# Altium footprint library AON6512.PcbLib: 1 footprints
Each footprint in its own frame and in the unit in brackets; x right, y up, seen from the top. Pads: shape width x height; smd on the part's side, far side on the other; paste and mask are expansions set on the pad; w line width, h text height; cw(c..) or ccw(c..) is an arc to the next point about the centre after c.
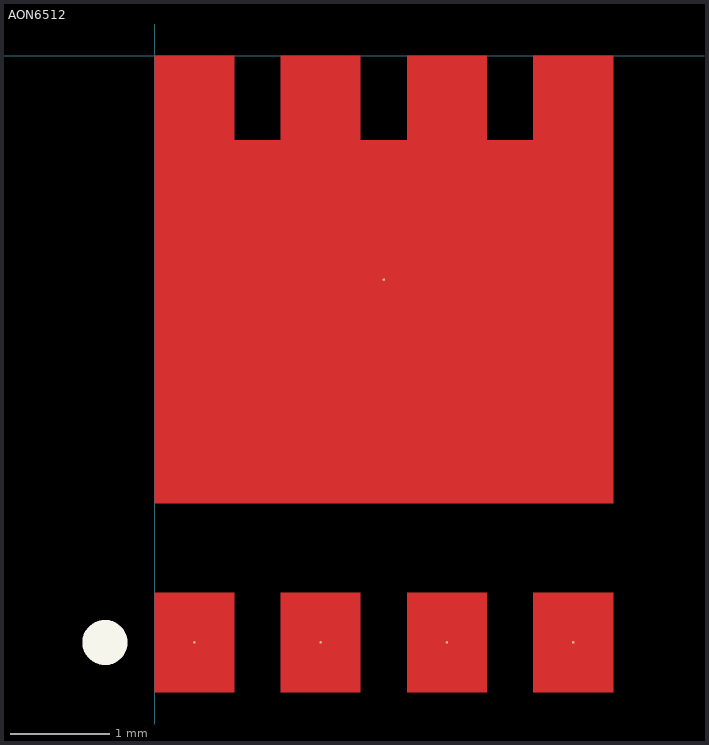
[diagram p0: the footprint, top view; thin cyan lines are the x and y axes]

## AON6512 [mil]
pads (5):
  round 1 smd: 1(15.75,-232.28) 2(65.75,-232.28) 3(115.75,-232.28) 4(165.75,-232.28) 5(90.75,-88.58)
Top Layer:
  region: 31.5,-33.46 31.5,0 0,0 0,-177.17 181.5,-177.17 181.5,0 150,0 150,-33.46 131.5,-33.46 131.5,0 100,0 100,-33.46 81.5,-33.46 81.5,0 50,0 50,-33.46
  region: 50,-251.97 50,-212.6 81.5,-212.6 81.5,-251.97
  region: 100,-251.97 100,-212.6 131.5,-212.6 131.5,-251.97
  region: 150,-251.97 150,-212.6 181.5,-212.6 181.5,-251.97
  region: 0,-251.97 0,-212.6 31.5,-212.6 31.5,-251.97
Top Overlay:
  circle w10: c-19.68,-232.28 r3.94